# Altium schematic symbol library io_expansion.SchLib: 2 symbols
Pins are listed as number, name and electrical type; pins without a type are passive.

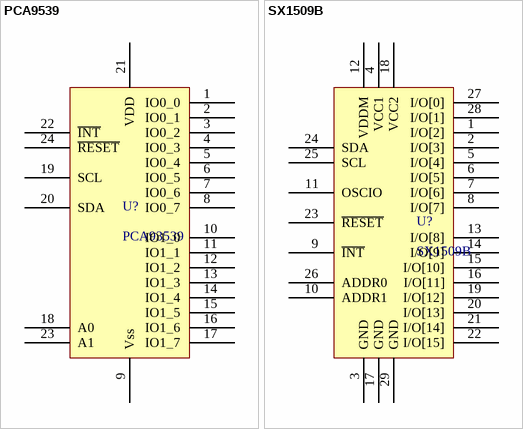
[diagram p0: symbols PCA9539 to SX1509B]

## PCA9539
designator U?, comment PCA93539
16-bit I2C-bus and SMBus low power I/O port with interrupt  and reset; Supplier 1: Digi-Key; Supplier Part Number 1: 568-11437-1-ND
pins: 1 IO0_0, 2 IO0_1, 3 IO0_2, 4 IO0_3, 5 IO0_4, 6 IO0_5, 7 IO0_6, 8 IO0_7, 9 Vss, 10 IO1_0, 11 IO1_1, 12 IO1_2, 13 IO1_3, 14 IO1_4, 15 IO1_5, 16 IO1_6, 17 IO1_7, 18 A0, 19 SCL, 20 SDA, 21 VDD, 22 ~{INT}, 23 A1, 24 ~{RESET}

## SX1509B
designator U?
Voltage Level Shifting GPIO  with LED Driver and Keypad Engine; Supplier 1: Digi-Key; Supplier Part Number 1: SX1509BIULCT-ND
footprint QFN40P400X400X60_HS-29N (QFN, 28-Leads, Body 4.00x4.00mm, Pitch 0.40mm, Thermal Pad 2.65x2.65mm, IPC Medium Density)
pins: 1 I/O[2], 2 I/O[3], 3 GND, 4 VCC1, 5 I/O[4], 6 I/O[5], 7 I/O[6], 8 I/O[7], 9 ~{INT}, 10 ADDR1, 11 OSCIO, 12 VDDM, 13 I/O[8], 14 I/O[9], 15 I/O[10], 16 I/O[11], 17 GND, 18 VCC2, 19 I/O[12], 20 I/O[13], 21 I/O[14], 22 I/O[15], 23 ~{RESET}, 24 SDA, 25 SCL, 26 ADDR0, 27 I/O[0], 28 I/O[1], 29 GND